# Altium footprint library FXL0420-2R2-M.PcbLib: 1 footprints
Each footprint in its own frame and in the unit in brackets; x right, y up, seen from the top. Pads: shape width x height; smd on the part's side, far side on the other; paste and mask are expansions set on the pad; w line width, h text height; cw(c..) or ccw(c..) is an arc to the next point about the centre after c.
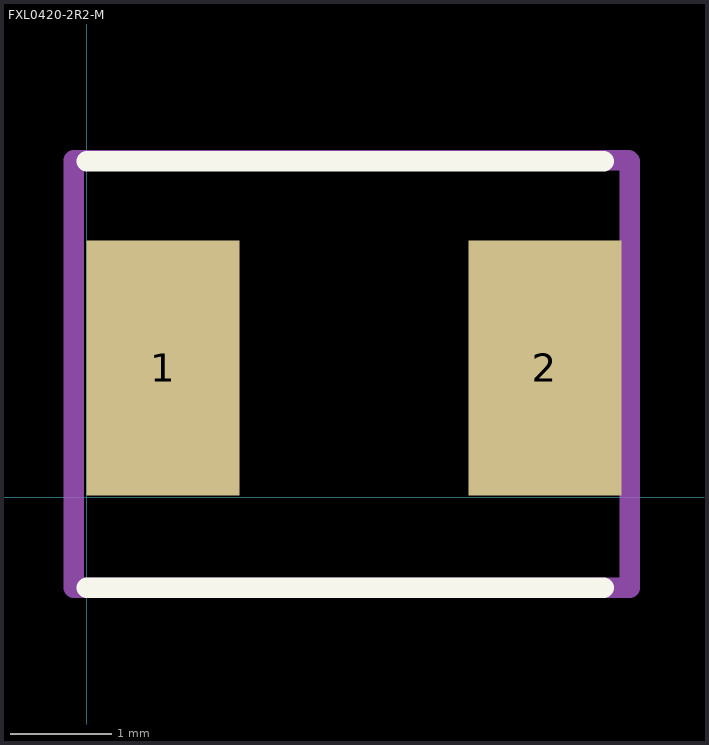
[diagram p0: the footprint, top view; thin cyan lines are the x and y axes]

## FXL0420-2R2-M [mm]
pads (2):
  rect 1.5x2.5 smd: 1(0.75,1.27) 2(4.5,1.27)
Top Overlay:
  lines w0.2: 0,-0.889 5.08,-0.889 ; 0,3.302 5.08,3.302
Mechanical 1:
  lines w0.2: 4.191,-0.889 5.334,-0.889 5.334,3.302 5.325,3.311 4.473,3.311 -0.127,3.311 -0.127,-0.889 4.473,-0.889
  text "2.2u" at 2.821,0.1 h0.6
3D body "Download_STP_WE-MAPI_4020+(rev1).stp": height 2.1, standoff 0, extent 0.49,-0.78 4.59,3.32